# EAGLE library part NT3H2111 (library nfc-attiny-atecc)
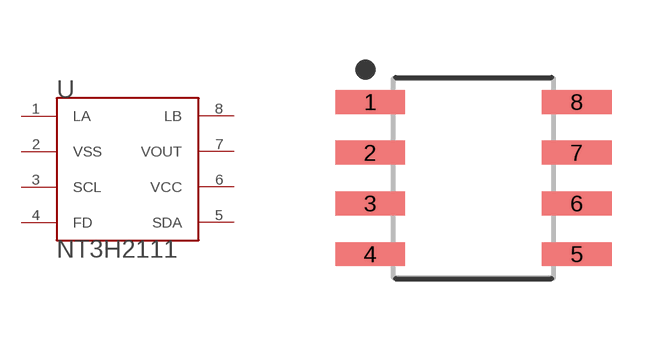
[diagram p0: symbol with the pads of SOIC127P600X175-8N; footprint SOIC127P600X175-8N]

Designator prefix U

## NT3H2111-SOIC8 (MPN: NT3H2111W0FT1X)  [SOIC127P600X175-8N]
1  LA
2  VSS
3  SCL
4  FD
5  SDA
6  VCC
7  VOUT
8  LB

## Footprint SOIC127P600X175-8N (pad centres in mm)
8-SOIC, 1.27 mm pitch, 6.00 mm span, 4.90 X 3.90 X 1.75 mm body 8-pin SOIC package with 1.27 mm pitch, 6.00 mm span with body size 4.90 X 3.90 X 1.75 mm
smd 1.746 x 0.597: 1 -2.585,1.905; 2 -2.585,0.635; 3 -2.585,-0.635; 4 -2.585,-1.905; 5 2.585,-1.905; 6 2.585,-0.635; 7 2.585,0.635; 8 2.585,1.905